# Altium schematic symbol library Toshiba Discrete IGBT.SchLib: 2 symbols
Pins are listed as number, name and electrical type; pins without a type are passive.

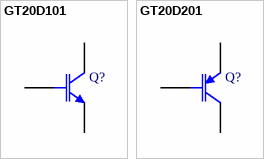
[diagram p0: symbols GT20D101 to GT20D201]

## GT20D101
designator Q?
Silicon N-Channel Insulated Gate Bipolar Transistor; Published: 8-Jun-2000; LatestRevisionDate: 17-Jul-2002; LatestRevisionNote: Re-released for DXP Platform.; DatasheetDocument: 22-Aug-1997; PackageReference: 2-21F1C; Publisher: Altium Limited; Code_JEDEC: TO-264-AA; ComponentLink1Description: Manufacturer Link; ComponentLink1URL: http://www.toshiba.com/taec/; ComponentLink2Description: Datasheet; ComponentLink2URL: http://www.ortodoxism.ro/datasheets/toshiba/1534.pdf
footprint 2-21F1C (SIP with Mounting Hole; 3 Leads; Body 26 x 20 x 5 mm (typ); Pitch 5.45 mm)
simulation model GT20D101 (SUBCKT)
pins: 1 G, 2 C, 3 E

## GT20D201
designator Q?
Silicon P-Channel Insulated Gate Bipolar Transistor; Published: 8-Jun-2000; LatestRevisionDate: 28-Feb-2003; LatestRevisionNote: Gate turn-on voltage of SIM model made negative; DatasheetDocument: 22-Aug-1997; PackageReference: 2-21F1C; Publisher: Altium Limited; Code_JEDEC: TO-264-AA; ComponentLink1Description: Manufacturer Link; ComponentLink1URL: http://www.toshiba.com/taec/; ComponentLink2Description: Datasheet; ComponentLink2URL: http://www.ortodoxism.ro/datasheets/toshiba/1535.pdf
footprint 2-21F1C (SIP with Mounting Hole; 3 Leads; Body 26 x 20 x 5 mm (typ); Pitch 5.45 mm)
simulation model GT20D201 (SUBCKT)
pins: 1 G, 2 C, 3 E